# EAGLE library part TPS63070 (library common)
TPS63070 High-efficiency, low quiescent current buck-boost converter. Input Range: 2.0V to 16V Output Range: 2.5V to 9V Output Current: 2.0A Buck/Boost
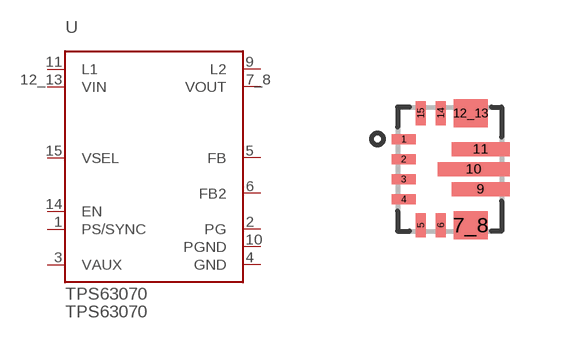
[diagram p44: symbol with the pads of VQFN-HR; footprint VQFN-HR]

Designator prefix U

## TPS63070  [VQFN-HR]
1  PS/SYNC  in
2  PG  pwr
3  VAUX  pas
4  GND  pwr
5  FB  in
6  FB2  in
7_8  VOUT  out
9  L2  pas
10  PGND  pwr
11  L1  pas
12_13  VIN  pwr
14  EN  in
15  VSEL  pwr

## Footprint VQFN-HR (pad centres in mm)
smd 0.6 x 0.25: 1 -1.15,0.75; 2 -1.15,0.25; 3 -1.15,-0.25; 4 -1.15,-0.75
smd 0.25 x 0.6: 5 -0.725,-1.4; 6 -0.225,-1.4; 14 -0.225,1.4; 15 -0.725,1.4
smd 0.85 x 0.7: 7_8 0.525,-1.4; 12_13 0.525,1.4
smd 1.45 x 0.35: 9 0.775,-0.5; 11 0.775,0.5
smd 1.8 x 0.35: 10 0.6,0